# EAGLE library part SS-30_MALE_CONNECTOR (library SS-50)
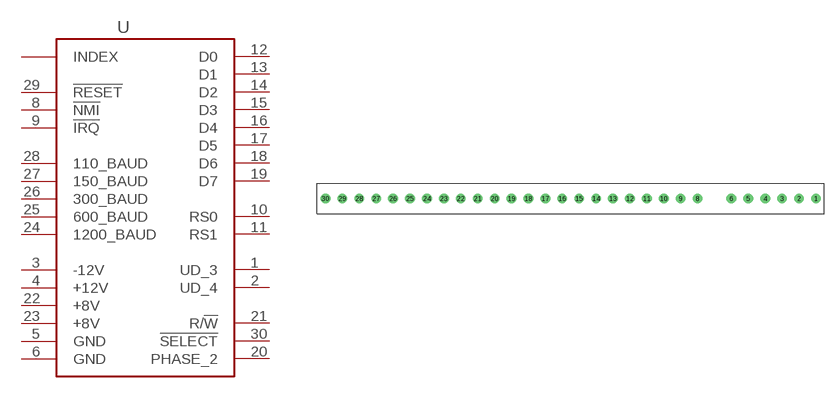
[diagram p1: symbol with the pads of SS-30_MALE_CONNECTOR; footprint SS-30_MALE_CONNECTOR]

Designator prefix -

## SS-30_MALE_CONNECTOR  [SS-30_MALE_CONNECTOR]
1  UD_3
2  UD_4
3  -12V  pwr
4  +12V  pwr
5  GND  pwr
6  GND  pwr
8  !NMI
9  !IRQ
10  RS0
11  RS1
12  D0
13  D1
14  D2
15  D3
16  D4
17  D5
18  D6
19  D7
20  PHASE_2
21  R/!W
22  +8V  pwr
23  +8V  pwr
24  1200_BAUD
25  600_BAUD
26  300_BAUD
27  150_BAUD
28  110_BAUD
29  !RESET
30  !SELECT

## Footprint SS-30_MALE_CONNECTOR (pad centres in mm)
drill 1.524: 1 57.15,3.556; 2 53.188,3.556; 3 49.225,3.556; 4 45.263,3.556; 5 41.3,3.556; 6 37.338,3.556; 8 29.413,3.556; 9 25.451,3.556; 10 21.488,3.556; 11 17.526,3.556; 12 13.564,3.556; 13 9.601,3.556; 14 5.639,3.556; 15 1.676,3.556; 16 -2.286,3.556; 17 -6.248,3.556; 18 -10.211,3.556; 19 -14.173,3.556; 20 -18.136,3.556; 21 -22.098,3.556; 22 -26.06,3.556; 23 -30.023,3.556; 24 -33.985,3.556; 25 -37.948,3.556; 26 -41.91,3.556; 27 -45.872,3.556; 28 -49.835,3.556; 29 -53.797,3.556; 30 -57.76,3.556